# EAGLE library part L293 (library custom-2002)
Doble puente en H para control de motores
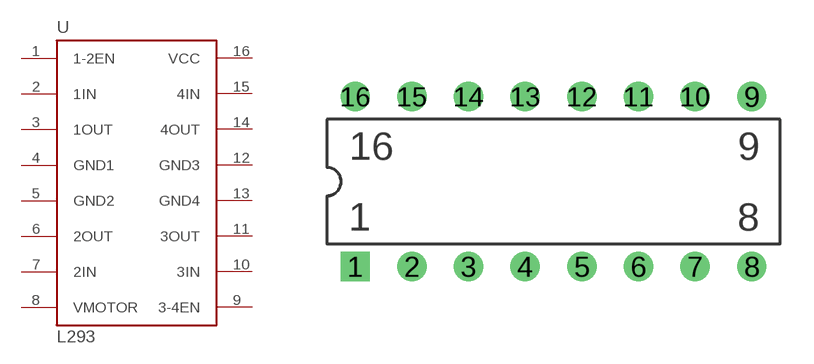
[diagram p5: symbol with the pads of DIL16; footprint DIL16]

Designator prefix U

## L293DIP  [DIL16]
1  1-2EN  in
2  1IN  in
3  1OUT  out
4  GND1  pwr
5  GND2  pwr
6  2OUT  out
7  2IN  in
8  VMOTOR  pwr
9  3-4EN  in
10  3IN  in
11  3OUT  out
12  GND3  pwr
13  GND4  pwr
14  4OUT  out
15  4IN  in
16  VCC  pwr

## Footprint DIL16 (pad centres in mm)
drill 0.813 square: 1 0,0
drill 0.813 round: 2 2.54,0; 3 5.08,0; 4 7.62,0; 5 10.16,0; 6 12.7,0; 7 15.24,0; 8 17.78,0; 9 17.78,7.62; 10 15.24,7.62; 11 12.7,7.62; 12 10.16,7.62; 13 7.62,7.62; 14 5.08,7.62; 15 2.54,7.62; 16 0,7.62